# EAGLE library part MEGA*8- (library dl)
8-bit-Mikrocontroller 8bit, 16MHz, Harvard 4/8/16 Kbyte FLASH (schreibbar durch Firmware) 1 KByte RAM 0,5 KByte EEPROM 1x UART, 8 Kanal 10-bit-ADU, 2x Timer, I²C, SPI Achtung! Chaotisches Schaltbild nur passend für DiscoLitez-Ausgabeeinheit gemultiplext
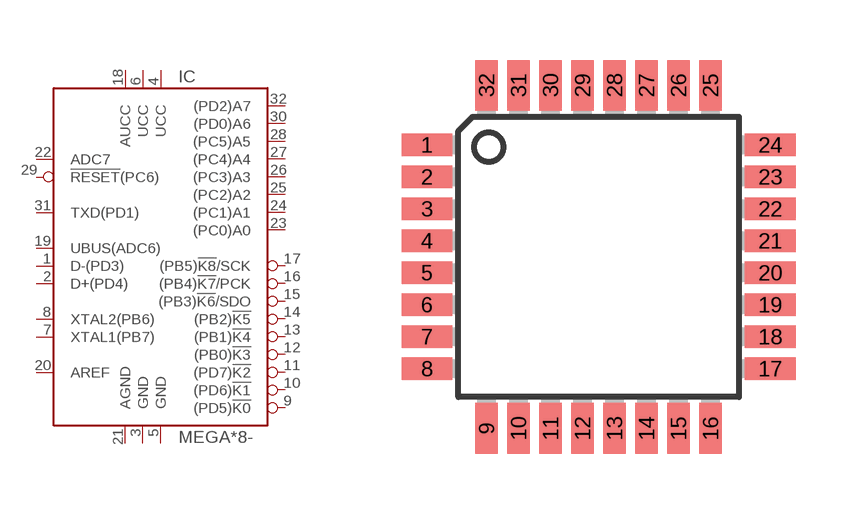
[diagram p3: symbol with the pads of TQFP32-08; footprint TQFP32-08]

Designator prefix IC

## MEGA168-TQ, MEGA48-TQ, MEGA88-TQ  [TQFP32-08]
1  D-(PD3)
2  D+(PD4)
3  GND  pwr
4  UCC  pwr
5  GND  pwr
6  UCC  pwr
7  XTAL1(PB7)  in
8  XTAL2(PB6)  out
9  (PD5)!K0  out
10  (PD6)!K1  out
11  (PD7)!K2  out
12  (PB0)!K3  out
13  (PB1)!K4  out
14  (PB2)!K5  out
15  (PB3)!K6!/SDO  out
16  (PB4)!K7!/PCK  out
17  (PB5)!K8!/SCK  out
18  AUCC  pwr
19  UBUS(ADC6)  in
20  AREF  pas
21  AGND  pwr
22  ADC7  pas
23  (PC0)A0  out
24  (PC1)A1  out
25  (PC2)A2  out
26  (PC3)A3  out
27  (PC4)A4  out
28  (PC5)A5  out
29  !RESET!(PC6)  in
30  (PD0)A6  out
31  TXD(PD1)  out
32  (PD2)A7  out

## Footprint TQFP32-08 (pad centres in mm)
SMD-Gehäuse quadratisch, e=0.8
smd 1.27 x 0.559: 1 -4.293,2.8; 2 -4.293,2; 3 -4.293,1.2; 4 -4.293,0.4; 5 -4.293,-0.4; 6 -4.293,-1.2; 7 -4.293,-2; 8 -4.293,-2.8; 17 4.293,-2.8; 18 4.293,-2; 19 4.293,-1.2; 20 4.293,-0.4; 21 4.293,0.4; 22 4.293,1.2; 23 4.293,2; 24 4.293,2.8
smd 0.559 x 1.27: 9 -2.8,-4.293; 10 -2,-4.293; 11 -1.2,-4.293; 12 -0.4,-4.293; 13 0.4,-4.293; 14 1.2,-4.293; 15 2,-4.293; 16 2.8,-4.293; 25 2.8,4.293; 26 2,4.293; 27 1.2,4.293; 28 0.4,4.293; 29 -0.4,4.293; 30 -1.2,4.293; 31 -2,4.293; 32 -2.8,4.293